# Altium schematic symbol library SnapEDAsch.SchLib: 1 symbol
Pins are listed as number, name and electrical type; pins without a type are passive.

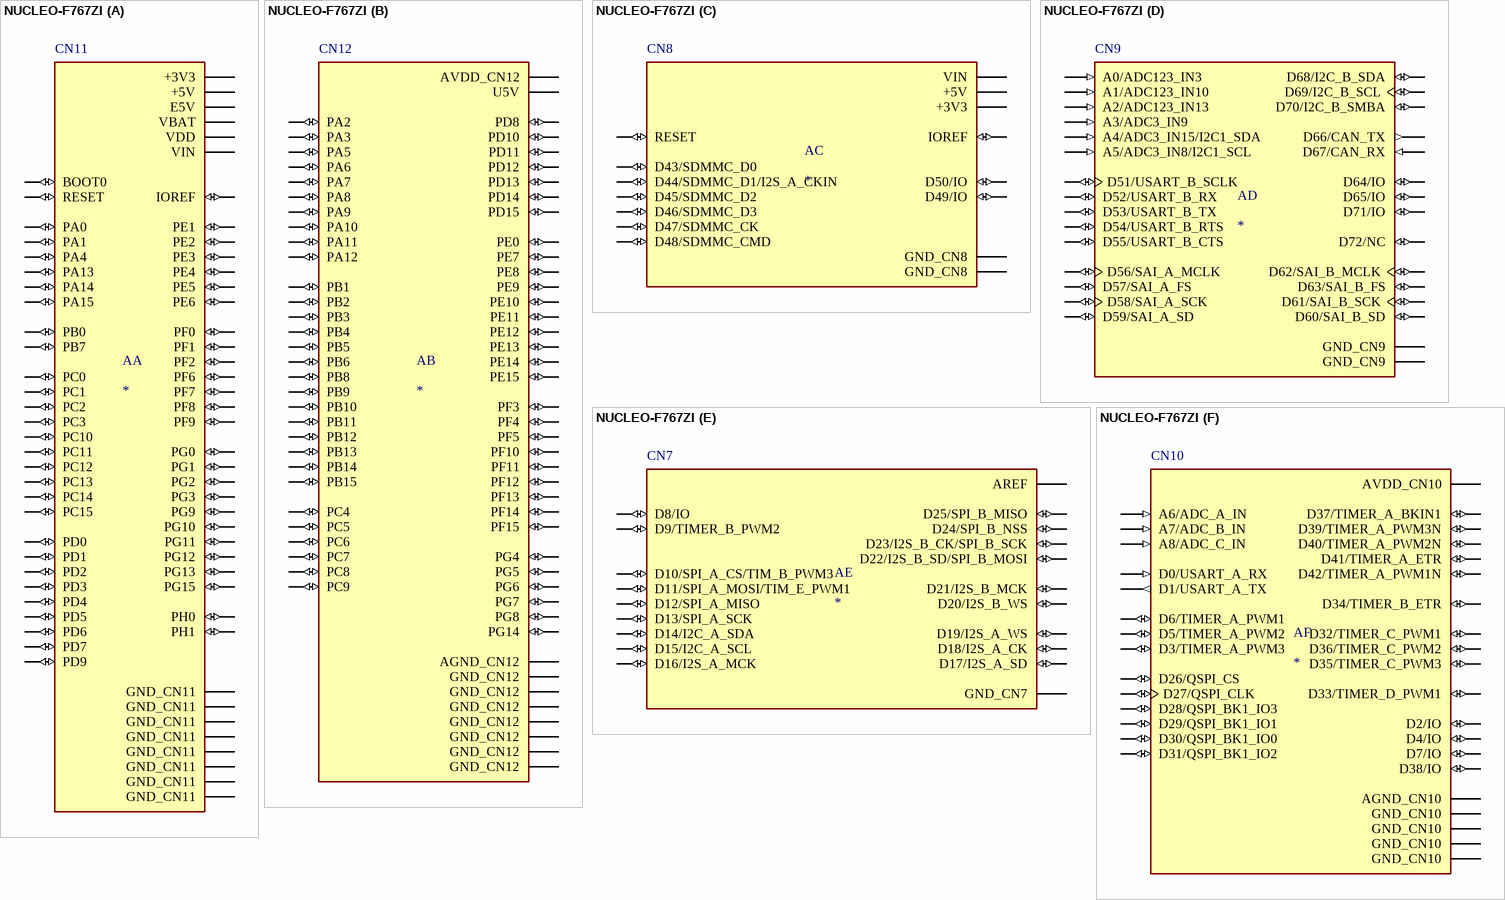
[diagram p0: symbol NUCLEO-F767ZI]

## NUCLEO-F767ZI
designator A
STM32F767, mbed-Enabled Development Nucleo-144 STM32F7 ARMÂ® CortexÂ®-M7 MCU 32-Bit Embedded Evaluation Board; MP: NUCLEO-F767ZI; MF: STMicroelectronics; Value: *; Package: None; Price: None; Availability: Unavailable; SnapEDA_Link: https://www.snapeda.com/parts/NUCLEO-F767ZI/STMicroelectronics/view-part/562019/?ref=snap
footprint ST_NUCLEO-F767ZI
part A pins: CN11_1 PC10 (io), CN11_2 PC11 (io), CN11_3 PC12 (io), CN11_4 PD2 (io), CN11_5 VDD (power), CN11_6 E5V (power), CN11_7 BOOT0 (io), CN11_8 GND_CN11 (power), CN11_9 PF6 (io), CN11_11 PF7 (io), CN11_12 IOREF (io), CN11_13 PA13 (io), CN11_14 RESET (io), CN11_15 PA14 (io), CN11_16 +3V3 (power), CN11_17 PA15 (io), CN11_18 +5V (power), CN11_19 GND_CN11 (power), CN11_20 GND_CN11 (power), CN11_21 PB7 (io), CN11_22 GND_CN11 (power), CN11_23 PC13 (io), CN11_24 VIN (power), CN11_25 PC14 (io), CN11_27 PC15 (io), CN11_28 PA0 (io), CN11_29 PH0 (io), CN11_30 PA1 (io), CN11_31 PH1 (io), CN11_32 PA4 (io), CN11_33 VBAT (power), CN11_34 PB0 (io), CN11_35 PC2 (io), CN11_36 PC1 (io), CN11_37 PC3 (io), CN11_38 PC0 (io), CN11_39 PD4 (io), CN11_40 PD3 (io), CN11_41 PD5 (io), CN11_42 PG2 (io), CN11_43 PD6 (io), CN11_44 PG3 (io), CN11_45 PD7 (io), CN11_46 PE2 (io), CN11_47 PE3 (io), CN11_48 PE4 (io), CN11_49 GND_CN11 (power), CN11_50 PE5 (io), CN11_51 PF1 (io), CN11_52 PF2 (io), CN11_53 PF0 (io), CN11_54 PF8 (io), CN11_55 PD1 (io), CN11_56 PF9 (io), CN11_57 PD0 (io), CN11_58 PG1 (io), CN11_59 PG0 (io), CN11_60 GND_CN11 (power), CN11_61 PE1 (io), CN11_62 PE6 (io), CN11_63 PG9 (io), CN11_64 PG15 (io), CN11_65 PG12 (io), CN11_66 PG10 (io), CN11_68 PG13 (io), CN11_69 PD9 (io), CN11_70 PG11 (io), CN11_71 GND_CN11 (power), CN11_72 GND_CN11 (power)
part B pins: CN12_1 PC9 (io), CN12_2 PC8 (io), CN12_3 PB8 (io), CN12_4 PC6 (io), CN12_5 PB9 (io), CN12_6 PC5 (io), CN12_7 AVDD_CN12 (power), CN12_8 U5V (power), CN12_9 GND_CN12 (power), CN12_10 PD8 (io), CN12_11 PA5 (io), CN12_12 PA12 (io), CN12_13 PA6 (io), CN12_14 PA11 (io), CN12_15 PA7 (io), CN12_16 PB12 (io), CN12_17 PB6 (io), CN12_18 PB11 (io), CN12_19 PC7 (io), CN12_20 GND_CN12 (power), CN12_21 PA9 (io), CN12_22 PB2 (io), CN12_23 PA8 (io), CN12_24 PB1 (io), CN12_25 PB10 (io), CN12_26 PB15 (io), CN12_27 PB4 (io), CN12_28 PB14 (io), CN12_29 PB5 (io), CN12_30 PB13 (io), CN12_31 PB3 (io), CN12_32 AGND_CN12 (power), CN12_33 PA10 (io), CN12_34 PC4 (io), CN12_35 PA2 (io), CN12_36 PF5 (io), CN12_37 PA3 (io), CN12_38 PF4 (io), CN12_39 GND_CN12 (power), CN12_40 PE8 (io), CN12_41 PD13 (io), CN12_42 PF10 (io), CN12_43 PD12 (io), CN12_44 PE7 (io), CN12_45 PD11 (io), CN12_46 PD14 (io), CN12_47 PE10 (io), CN12_48 PD15 (io), CN12_49 PE12 (io), CN12_50 PF14 (io), CN12_51 PE14 (io), CN12_52 PE9 (io), CN12_53 PE15 (io), CN12_54 GND_CN12 (power), CN12_55 PE13 (io), CN12_56 PE11 (io), CN12_57 PF13 (io), CN12_58 PF3 (io), CN12_59 PF12 (io), CN12_60 PF15 (io), CN12_61 PG14 (io), CN12_62 PF11 (io), CN12_63 GND_CN12 (power), CN12_64 PE0 (io), CN12_65 PD10 (io), CN12_66 PG8 (io), CN12_67 PG7 (io), CN12_68 PG5 (io), CN12_69 PG4 (io), CN12_70 PG6 (io), CN12_71 GND_CN12 (power), CN12_72 GND_CN12 (power)
part C pins: CN8_2 D43/SDMMC_D0 (io), CN8_3 IOREF (io), CN8_4 D44/SDMMC_D1/I2S_A_CKIN (io), CN8_5 RESET (io), CN8_6 D45/SDMMC_D2 (io), CN8_7 +3V3 (power), CN8_8 D46/SDMMC_D3 (io), CN8_9 +5V (power), CN8_10 D47/SDMMC_CK (io), CN8_11 GND_CN8 (power), CN8_12 D48/SDMMC_CMD (io), CN8_13 GND_CN8 (power), CN8_14 D49/IO (io), CN8_15 VIN (power), CN8_16 D50/IO (io)
part D pins: CN9_1 A0/ADC123_IN3 (in), CN9_2 D51/USART_B_SCLK (io), CN9_3 A1/ADC123_IN10 (in), CN9_4 D52/USART_B_RX (io), CN9_5 A2/ADC123_IN13 (in), CN9_6 D53/USART_B_TX (io), CN9_7 A3/ADC3_IN9 (in), CN9_8 D54/USART_B_RTS (io), CN9_9 A4/ADC3_IN15/I2C1_SDA (in), CN9_10 D55/USART_B_CTS (io), CN9_11 A5/ADC3_IN8/I2C1_SCL (in), CN9_12 GND_CN9 (power), CN9_13 D72/NC (io), CN9_14 D56/SAI_A_MCLK (io), CN9_15 D71/IO (io), CN9_16 D57/SAI_A_FS (io), CN9_17 D70/I2C_B_SMBA (io), CN9_18 D58/SAI_A_SCK (io), CN9_19 D69/I2C_B_SCL (io), CN9_20 D59/SAI_A_SD (io), CN9_21 D68/I2C_B_SDA (io), CN9_22 D60/SAI_B_SD (io), CN9_23 GND_CN9 (power), CN9_24 D61/SAI_B_SCK (io), CN9_25 D67/CAN_RX (in), CN9_26 D62/SAI_B_MCLK (io), CN9_27 D66/CAN_TX (out), CN9_28 D63/SAI_B_FS (io), CN9_29 D65/IO (io), CN9_30 D64/IO (io)
part E pins: CN7_1 D16/I2S_A_MCK (io), CN7_2 D15/I2C_A_SCL (io), CN7_3 D17/I2S_A_SD (io), CN7_4 D14/I2C_A_SDA (io), CN7_5 D18/I2S_A_CK (io), CN7_6 AREF (power), CN7_7 D19/I2S_A_WS (io), CN7_8 GND_CN7 (power), CN7_9 D20/I2S_B_WS (io), CN7_10 D13/SPI_A_SCK (io), CN7_11 D21/I2S_B_MCK (io), CN7_12 D12/SPI_A_MISO (io), CN7_13 D22/I2S_B_SD/SPI_B_MOSI (io), CN7_14 D11/SPI_A_MOSI/TIM_E_PWM1 (io), CN7_15 D23/I2S_B_CK/SPI_B_SCK (io), CN7_16 D10/SPI_A_CS/TIM_B_PWM3 (io), CN7_17 D24/SPI_B_NSS (io), CN7_18 D9/TIMER_B_PWM2 (io), CN7_19 D25/SPI_B_MISO (io), CN7_20 D8/IO (io)
part F pins: CN10_1 AVDD_CN10 (power), CN10_2 D7/IO (io), CN10_3 AGND_CN10 (power), CN10_4 D6/TIMER_A_PWM1 (io), CN10_5 GND_CN10 (power), CN10_6 D5/TIMER_A_PWM2 (io), CN10_7 A6/ADC_A_IN (in), CN10_8 D4/IO (io), CN10_9 A7/ADC_B_IN (in), CN10_10 D3/TIMER_A_PWM3 (io), CN10_11 A8/ADC_C_IN (in), CN10_12 D2/IO (io), CN10_13 D26/QSPI_CS (io), CN10_14 D1/USART_A_TX (out), CN10_15 D27/QSPI_CLK (io), CN10_16 D0/USART_A_RX (in), CN10_17 GND_CN10 (power), CN10_18 D42/TIMER_A_PWM1N (io), CN10_19 D28/QSPI_BK1_IO3 (io), CN10_20 D41/TIMER_A_ETR (io), CN10_21 D29/QSPI_BK1_IO1 (io), CN10_22 GND_CN10 (power), CN10_23 D30/QSPI_BK1_IO0 (io), CN10_24 D40/TIMER_A_PWM2N (io), CN10_25 D31/QSPI_BK1_IO2 (io), CN10_26 D39/TIMER_A_PWM3N (io), CN10_27 GND_CN10 (power), CN10_28 D38/IO (io), CN10_29 D32/TIMER_C_PWM1 (io), CN10_30 D37/TIMER_A_BKIN1 (io), CN10_31 D33/TIMER_D_PWM1 (io), CN10_32 D36/TIMER_C_PWM2 (io), CN10_33 D34/TIMER_B_ETR (io), CN10_34 D35/TIMER_C_PWM3 (io)
part A text: CN11
part B text: CN12
part C text: CN8
part D text: CN9
part E text: CN7
part F text: CN10